# Altium schematic symbol library AD5160.Schlib: 1 symbol
Pins are listed as number, name and electrical type; pins without a type are passive.

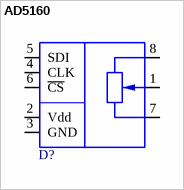
[diagram p0: symbol AD5160]

## AD5160
designator D?
Digital potentiometer
footprint SOT-23-8
pins: 1 W, 2 Vdd, 3 GND, 4 CLK, 5 SDI, 6 ~{CS}, 7 B, 8 A